# Altium schematic symbol library S_Inductor.SchLib: 1 symbol
Pins are listed as number, name and electrical type; pins without a type are passive.

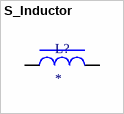
[diagram p0: symbol S_Inductor]

## S_Inductor
designator L?
pins: 1, 2